# Altium footprint library logos.PcbLib: 10 footprints
Each footprint in its own frame and in the unit in brackets; x right, y up, seen from the top. Pads: shape width x height; smd on the part's side, far side on the other; paste and mask are expansions set on the pad; w line width, h text height; cw(c..) or ccw(c..) is an arc to the next point about the centre after c.
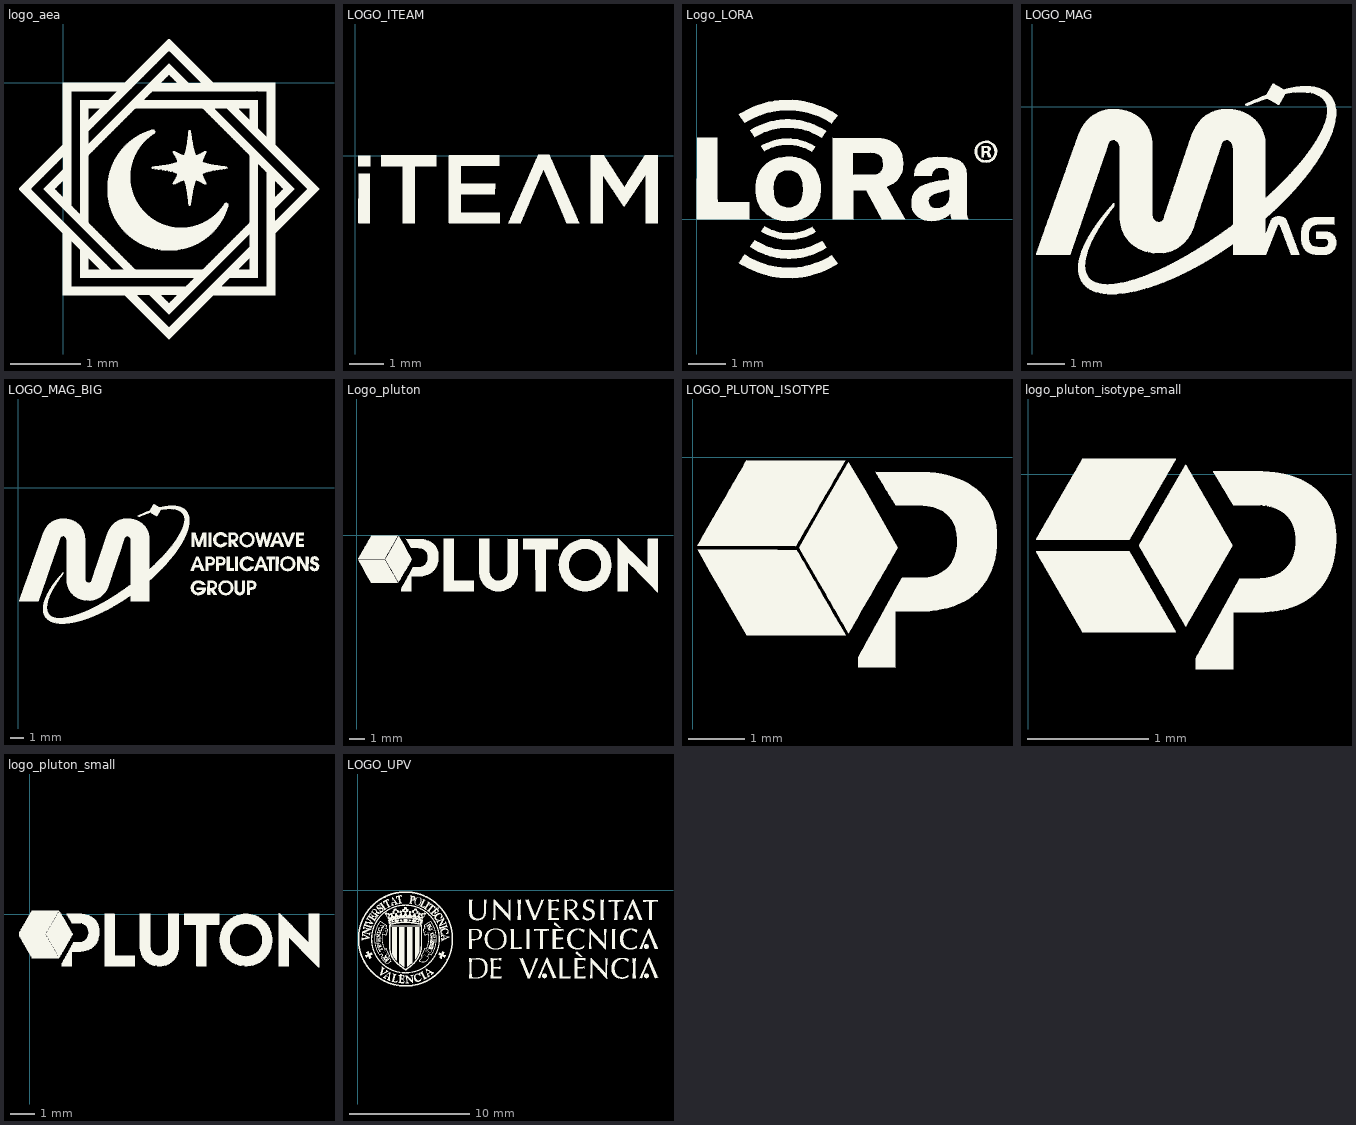
[diagram p0: the footprints below, top view; thin cyan lines are the x and y axes]

## logo_aea [mm]
Top Overlay:
  drawing of 3 lines, arcs and shapes, not listed

## LOGO_ITEAM [mm]
Top Overlay:
  drawing of 6 lines, arcs and shapes, not listed

## Logo_LORA [mm]
Top Overlay:
  drawing of 12 lines, arcs and shapes, not listed

## LOGO_MAG [mm]
Top Overlay:
  drawing of 2 lines, arcs and shapes, not listed

## LOGO_MAG_BIG [mm]
Top Overlay:
  drawing of 27 lines, arcs and shapes, not listed

## Logo_pluton [mm]
Top Overlay:
  drawing of 9 lines, arcs and shapes, not listed

## LOGO_PLUTON_ISOTYPE [mm]
Top Overlay:
  drawing of 4 lines, arcs and shapes, not listed

## logo_pluton_isotype_small [mm]
Top Overlay:
  drawing of 4 lines, arcs and shapes, not listed

## logo_pluton_small [mm]
Top Overlay:
  drawing of 9 lines, arcs and shapes, not listed

## LOGO_UPV [mm]
Top Overlay:
  drawing of 120 lines, arcs and shapes, not listed